# EAGLE library part ADXL325BCPZ-RL7 (library Sensor)
ACCELEROMETER 5G ANALOG 16LFCSP Manufacturer's datasheet <https://www.analog.com/media/en/technical-documentation/data-sheets/ADXL325.pdf>
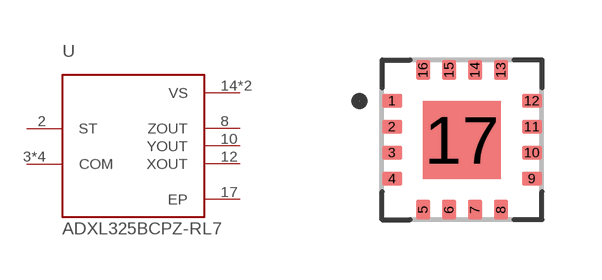
[diagram p27: symbol with the pads of LQFN-16-EP; footprint LQFN-16-EP]

Designator prefix U

## ADXL325BCPZ-RL7 (CREATED_BY: PCBLayout.com; DIGIKEY_PN: ADXL325BCPZ-RL7TR-ND; MANUFACTURER: Analog Devices Inc.; MPN: ADXL325BCPZ-RL7; PACKAGE: LQFN-16)  [LQFN-16-EP]
2  ST  in
3  COM  pas
5  COM  pas
6  COM  pas
7  COM  pas
8  ZOUT  out
10  YOUT  out
12  XOUT  out
14  VS  pwr
15  VS  pwr
17  EP  pwr

## Footprint LQFN-16-EP (pad centres in mm)
smd 0.5 x 0.35: 1 -1.75,0.975; 2 -1.75,0.325; 3 -1.75,-0.325; 4 -1.75,-0.975; 9 1.75,-0.975; 10 1.75,-0.325; 11 1.75,0.325; 12 1.75,0.975
smd 0.35 x 0.5: 5 -0.975,-1.75; 6 -0.325,-1.75; 7 0.325,-1.75; 8 0.975,-1.75; 13 0.975,1.75; 14 0.325,1.75; 15 -0.325,1.75; 16 -0.975,1.75
smd 1.95 x 1.95: 17 0,0